# EAGLE library part 0430450808-MICROFIT3.0-R/A2X4 (library con-molex)
MICROFIT 3.0 RA HDR/CLIP DR 30AU
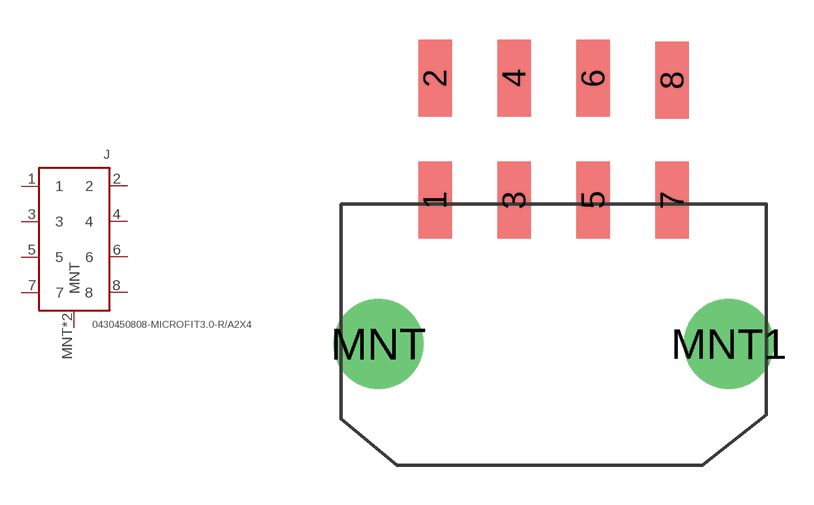
[diagram p6: symbol with the pads of 0430450808-MICROFIT3.0-RA-2X4; footprint 0430450808-MICROFIT3.0-RA-2X4]

Designator prefix J

## 0430450808-MICROFIT3.0-R/A2X4 (DIGIKEY: WM10731TR-ND; MFR: MOLEX; MPN: 0430450808)  [0430450808-MICROFIT3.0-RA-2X4]
1  1
2  2
3  3
4  4
5  5
6  6
7  7
8  8
MNT  MNT
MNT1  MNT

## Footprint 0430450808-MICROFIT3.0-RA-2X4 (pad centres in mm)
smd 1.27 x 2.92: 1 -4.5,5.47; 2 -4.5,10.1; 3 -1.5,5.47; 4 -1.5,10.1; 5 1.5,5.47; 6 1.5,10.1; 7 4.5,5.47; 8 4.5,10.01
drill 2.41: MNT -6.65,0; MNT1 6.65,0